# Altium schematic symbol library EMIF02-USB03F2.SchLib: 1 symbol
Pins are listed as number, name and electrical type; pins without a type are passive.

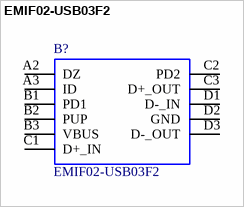
[diagram p0: symbol EMIF02-USB03F2]

## EMIF02-USB03F2
designator B?
New STMicroelectronics EMIF02-USB03F2 EMI Filter & ESD Protector; Geometry.Height: 0.715mm; Manufacturer_Name: STMicroelectronics; Manufacturer_Part_Number: EMIF02-USB03F2; RS Part Number: 1658173; RS Price/Stock: http://uk.rs-online.com/web/p/products/1658173; Arrow Part Number: EMIF02-USB03F2; Arrow Price/Stock: https://www.arrow.com/en/products/emif02-usb03f2/stmicroelectronics; Datasheet Link: http://www.st.com/content/ccc/resource/technical/document/datasheet/0a/25/37/a6/28/ab/4f/24/CD00042880.pdf/files/CD00042880.pdf/jcr:content/translations/en.CD00042880.pdf
footprint BGA11C50P3X4_144X194X72
pins: A2 DZ, A3 ID, B1 PD1, B2 PUP, B3 VBUS, C1 D+_IN, C2 PD2, C3 D+_OUT, D1 D-_IN, D2 GND, D3 D-_OUT